# Altium schematic symbol library WE-LPF.SchLib: 4 symbols
Pins are listed as number, name and electrical type; pins without a type are passive.

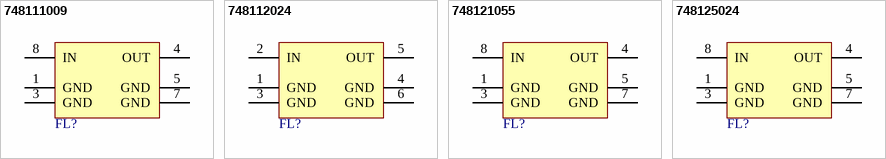
[diagram p0: symbols 748111009 to 748125024]

## 748111009
designator FL?, comment 902-928MHz  (value not drawn)
WE-LPF Multilayer Chip Low-Pass Filter, SMT, size 0805, 902-928MHz, 0.5dB; Manufacturer Part Number: 748111009; Manufacturer: Wurth Elektronik; Case/Size Code: 0805; VSWR: 1.5; ComponentLink1Description: Website Link; ComponentLink1URL: https://www.we-online.com/redexpert/article/748111009?ad; ComponentLink2Description: Datasheet Link; ComponentLink2URL: https://www.we-online.com/redexpert/spec/748111009?ad; Category: Signal Filters; Match Code: WE-LPF; Mount: Surface Mount; Operating Temperature Max: 85°C; Operating Temperature Min: -40°C; Packaging: Tape and Reel; Length: 2mm; Width: 1.25mm; Height: 0.95mm; Frequency Range: 902-928MHz; Insertion Loss: 0.5dB
footprint WE-LPF_0805
pins: 1 GND, 3 GND, 4 OUT, 5 GND, 7 GND, 8 IN

## 748112024
designator FL?, comment 2400-2500MHz  (value not drawn)
WE-LPF Multilayer Chip Low-Pass Filter, SMT, size 0603, 2400-2500MHz, 0.5dB; Manufacturer Part Number: 748112024; Manufacturer: Wurth Elektronik; Case/Size Code: 0603; VSWR: 1.5; ComponentLink1Description: Website Link; ComponentLink1URL: https://www.we-online.com/redexpert/article/748112024?ad; ComponentLink2Description: Datasheet Link; ComponentLink2URL: https://www.we-online.com/redexpert/spec/748112024?ad; Category: Signal Filters; Match Code: WE-LPF; Mount: Surface Mount; Operating Temperature Max: 85°C; Operating Temperature Min: -40°C; Packaging: Tape and Reel; Length: 1.6mm; Width: 0.8mm; Height: 0.6mm; Frequency Range: 2400-2500MHz; Insertion Loss: 0.5dB
footprint WE-LPF_0603
pins: 1 GND, 2 IN, 3 GND, 4 GND, 5 OUT, 6 GND

## 748121055
designator FL?, comment 5150-5875MHz  (value not drawn)
WE-LPF Multilayer Chip Low-Pass Filter, SMT, size 0805, 5150-5875MHz, 0.6dB; Manufacturer Part Number: 748121055; Manufacturer: Wurth Elektronik; Case/Size Code: 0805; VSWR: 1.8; ComponentLink1Description: Website Link; ComponentLink1URL: https://www.we-online.com/redexpert/article/748121055?ad; ComponentLink2Description: Datasheet Link; ComponentLink2URL: https://www.we-online.com/redexpert/spec/748121055?ad; Category: Signal Filters; Match Code: WE-LPF; Mount: Surface Mount; Operating Temperature Max: 85°C; Operating Temperature Min: -40°C; Packaging: Tape and Reel; Length: 2mm; Width: 1.25mm; Height: 0.95mm; Frequency Range: 5150-5875MHz; Insertion Loss: 0.6dB
footprint WE-LPF_0805
pins: 1 GND, 3 GND, 4 OUT, 5 GND, 7 GND, 8 IN

## 748125024
designator FL?, comment 2400-2500MHz  (value not drawn)
WE-LPF Multilayer Chip Low-Pass Filter, SMT, size 0805, 2400-2500MHz, 0.5dB; Manufacturer Part Number: 748125024; Manufacturer: Wurth Elektronik; Case/Size Code: 0805; VSWR: 1.8; ComponentLink1Description: Website Link; ComponentLink1URL: https://www.we-online.com/redexpert/article/748125024?ad; ComponentLink2Description: Datasheet Link; ComponentLink2URL: https://www.we-online.com/redexpert/spec/748125024?ad; Category: Signal Filters; Match Code: WE-LPF; Mount: Surface Mount; Operating Temperature Max: 85°C; Operating Temperature Min: -40°C; Packaging: Tape and Reel; Length: 2mm; Width: 1.25mm; Height: 0.95mm; Frequency Range: 2400-2500MHz; Insertion Loss: 0.5dB
footprint WE-LPF_0805
pins: 1 GND, 3 GND, 4 OUT, 5 GND, 7 GND, 8 IN